# EAGLE library part RPI_GPIO (library quentin)
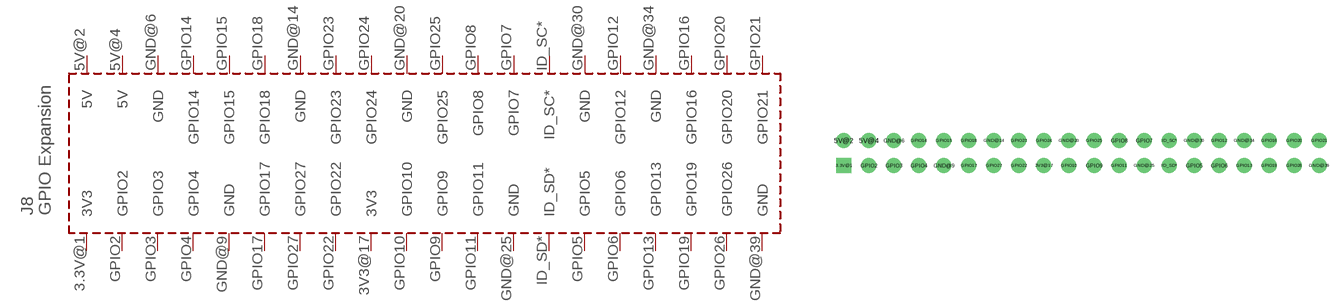
[diagram p2: symbol with the pads of RPI_GPIO; footprint RPI_GPIO]

Designator prefix -

## RPI_GPIO  [RPI_GPIO]
3.3V@1  3V3
3V3@17  3V3
5V@2  5V
5V@4  5V
GND@6  GND
GND@9  GND
GND@14  GND
GND@20  GND
GND@25  GND
GND@30  GND
GND@34  GND
GND@39  GND
GPIO2  GPIO2
GPIO3  GPIO3
GPIO4  GPIO4
GPIO5  GPIO5
GPIO6  GPIO6
GPIO7  GPIO7
GPIO8  GPIO8
GPIO9  GPIO9
GPIO10  GPIO10
GPIO11  GPIO11
GPIO12  GPIO12
GPIO13  GPIO13
GPIO14  GPIO14
GPIO15  GPIO15
GPIO16  GPIO16
GPIO17  GPIO17
GPIO18  GPIO18
GPIO19  GPIO19
GPIO20  GPIO20
GPIO21  GPIO21
GPIO22  GPIO22
GPIO23  GPIO23
GPIO24  GPIO24
GPIO25  GPIO25
GPIO26  GPIO26
GPIO27  GPIO27
ID_SC*  ID_SC*
ID_SD*  ID_SD*

## Footprint RPI_GPIO (pad centres in mm)
drill 1.016 square: 3.3V@1 -24.142,-1.221
drill 1.016: 3V3@17 -3.835,-1.219; 5V@2 -24.155,1.321; 5V@4 -21.615,1.321; GND@6 -19.075,1.321; GND@9 -13.995,-1.219; GND@14 -8.915,1.321; GND@20 -1.295,1.321; GND@25 6.325,-1.219; GND@30 11.405,1.321; GND@34 16.485,1.321; GND@39 24.105,-1.219; GPIO2 -21.615,-1.219; GPIO3 -19.075,-1.219; GPIO4 -16.535,-1.219; GPIO5 11.405,-1.219; GPIO6 13.945,-1.219; GPIO7 6.325,1.321; GPIO8 3.785,1.321; GPIO9 1.245,-1.219; GPIO10 -1.295,-1.219; GPIO11 3.785,-1.219; GPIO12 13.945,1.321; GPIO13 16.485,-1.219; GPIO14 -16.535,1.321; GPIO15 -13.995,1.321; GPIO16 19.025,1.321; GPIO17 -11.455,-1.219; GPIO18 -11.455,1.321; GPIO19 19.025,-1.219; GPIO20 21.565,1.321; GPIO21 24.105,1.321; GPIO22 -6.375,-1.219; GPIO23 -6.375,1.321; GPIO24 -3.835,1.321; GPIO25 1.245,1.321; GPIO26 21.565,-1.219; GPIO27 -8.915,-1.219; ID_SC* 8.865,1.321; ID_SD* 8.865,-1.219